# Altium schematic symbol library ERA-6VEB1000V.SchLib: 1 symbol
Pins are listed as number, name and electrical type; pins without a type are passive.

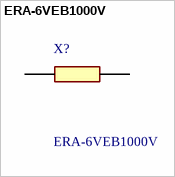
[diagram p0: symbol ERA-6VEB1000V]

## ERA-6VEB1000V
designator X?
Thin Film Chip Resistor, High Stability & Reliability, 0805, 0.25W; Manufacturer_Name: Panasonic; Geometry.Height: 0.65mm; Mouser Part Number: 667-ERA-6VEB1000V; Mouser Price/Stock: https://www.mouser.co.uk/ProductDetail/Panasonic/ERA-6VEB1000V?qs=rI7uf1IzohT7rLgO%252BB7NcQ%3D%3D; Manufacturer_Part_Number: ERA-6VEB1000V; Datasheet Link: http://industrial.panasonic.com/cdbs/www-data/pdf/RDM0000/RDM0000C331.pdf
footprint ERA6VK
pins: 1, 2